# Altium footprint library SnapEDApcb.PcbLib: 1 footprints
Each footprint in its own frame and in the unit in brackets; x right, y up, seen from the top. Pads: shape width x height; smd on the part's side, far side on the other; paste and mask are expansions set on the pad; w line width, h text height; cw(c..) or ccw(c..) is an arc to the next point about the centre after c.
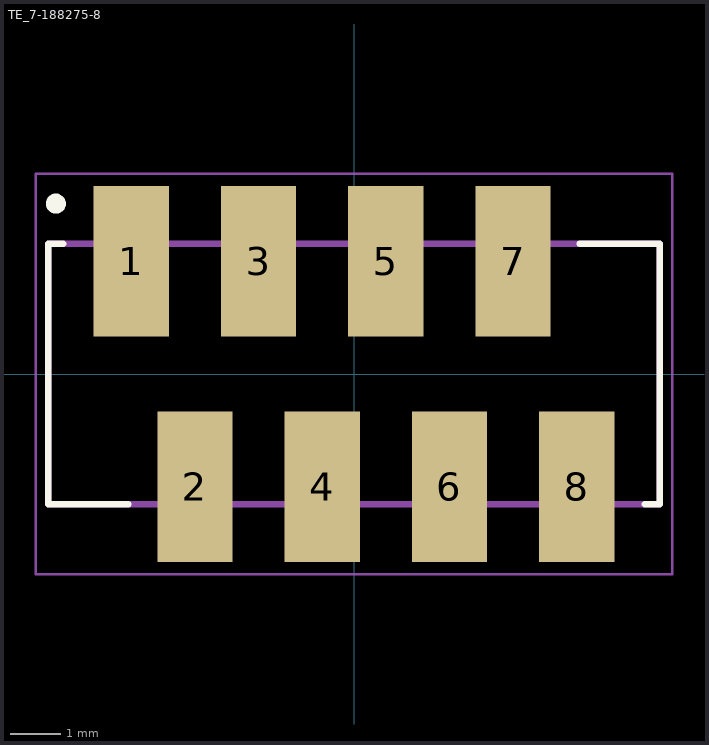
[diagram p0: the footprint, top view; thin cyan lines are the x and y axes]

## TE_7-188275-8 [mm]
pads (8):
  rect 1.5x3 smd: 1(-4.445,2.25) 2(-3.175,-2.25) 3(-1.905,2.25) 4(-0.635,-2.25) 5(0.635,2.25) 6(1.905,-2.25) 7(3.175,2.25) 8(4.445,-2.25)
Top Overlay:
  circle w0.2: c-5.95,3.4 r0.1
  lines w0.127: -5.8,2.6 -6.1,2.6 -6.1,-2.6 -4.5,-2.6 ; 4.5,2.6 6.1,2.6 6.1,-2.6 5.8,-2.6
Mechanical 13:
  lines w0.127: -6.1,-2.6 6.1,-2.6 6.1,2.6 -6.1,2.6 -6.1,-2.6
Mechanical 15:
  lines w0.05: -6.35,-4 6.35,-4 6.35,4 -6.35,4 -6.35,-4